# EAGLE library part BH1745NUC (library IC & Transistor)
Digital 16bit Serial Output Type Color Sensor Created by: Wai Weng
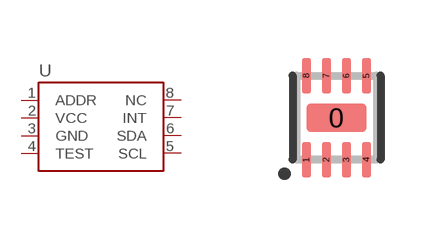
[diagram p92: symbol with the pads of WSON008X2120; footprint WSON008X2120]

Designator prefix U

## BH1745NUC (DESC: S Digital Color Sensor BH1745NUC WSON008X2120; MF: ROHM Semiconductor; MPN: BH1745NUC)  [WSON008X2120]
1  ADDR
2  VCC
3  GND
4  TEST
5  SCL
6  SDA
7  INT
8  NC

## Footprint WSON008X2120 (pad centres in mm)
WSON008X2120 Package for BH1745NUC Digital Color Sensor Size: 2.1mm x 2.0mm Created by: Wai Weng
smd 1.5 x 0.7: 0 0,0
smd 0.23 x 0.9: 1 -0.75,-1.05; 2 -0.25,-1.05; 3 0.25,-1.05; 4 0.75,-1.05; 5 0.75,1.05; 6 0.25,1.05; 7 -0.25,1.05; 8 -0.75,1.05